# Altium footprint library WCAP-HSAH.PcbLib: 6 footprints
Each footprint in its own frame and in the unit in brackets; x right, y up, seen from the top. Pads: shape width x height; smd on the part's side, far side on the other; paste and mask are expansions set on the pad; w line width, h text height; cw(c..) or ccw(c..) is an arc to the next point about the centre after c.
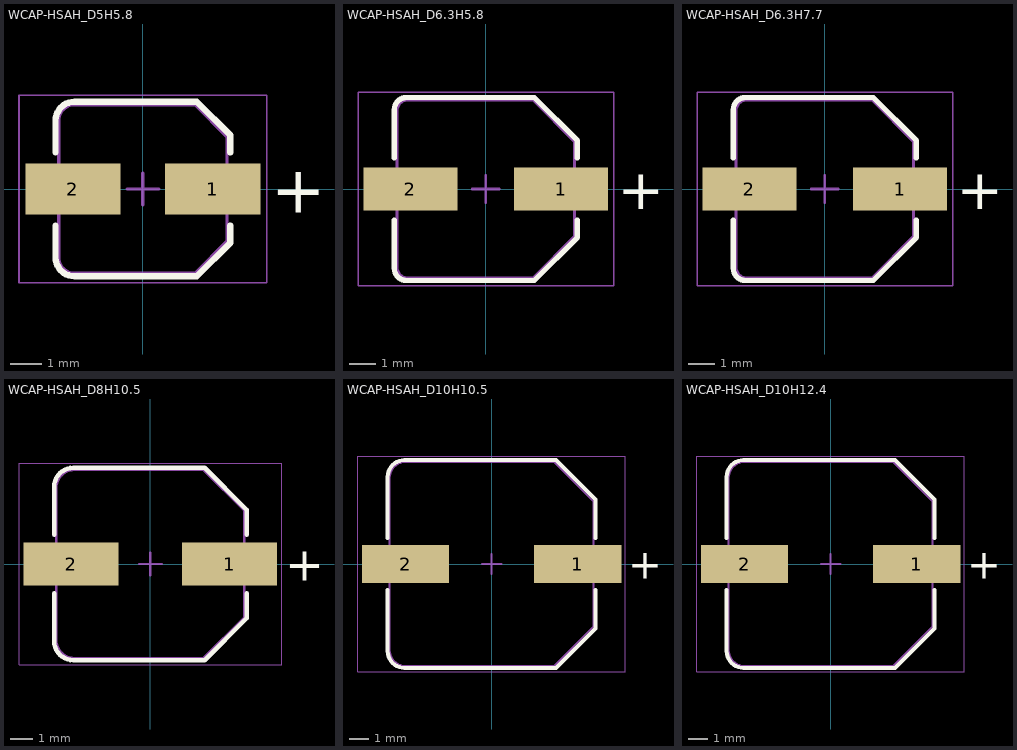
[diagram p0: the footprints below, top view; thin cyan lines are the x and y axes]

## WCAP-HSAH_D5H5.8 [mm] "Aluminum Hybrid Polymer Capacitor, SMT, body diameter 5mm"
height 5.8
pads (2):
  rect 3x1.6 smd: 1(2.2,0) 2(-2.2,0)
Top Overlay:
  lines w0.2: -2.75,-1.15 -2.75,-2.15 ccw(c-2.15,-2.15) -2.15,-2.75 1.7,-2.75 2.75,-1.7 2.75,-1.15 ; -2.75,1.15 -2.75,2.15 cw(c-2.15,2.15) -2.15,2.75 1.7,2.75 2.75,1.7 2.75,1.15
  text "+" at 4.05,-0.75 h1.5
Top Assembly:
  lines w0.1: -2.65,-2.15 ccw(c-2.15,-2.15) -2.15,-2.65 1.65,-2.65 2.65,-1.65 2.65,1.65 1.65,2.65 -2.15,2.65 ccw(c-2.15,2.15) -2.65,2.15 -2.65,-2.15
Top Designator:
  text ".Designator" at -3.647,-0.357 h1
Top Courtyard:
  lines w0.05: -3.9,-2.95 3.9,-2.95 3.9,2.95 -3.9,2.95 -3.9,-2.95
Top Component Center:
  lines w0.1: -0.5,0 0.5,0 ; 0,-0.5 0,0.5
3D body "5x5.8x1.4.stp": height 5.85, standoff 0.05, extent -2.95,-2.65 2.95,2.65

## WCAP-HSAH_D6.3H5.8 [mm] "Aluminum Hybrid Polymer Capacitor, SMT, body diameter 6.3mm"
height 5.8
pads (2):
  rect 3.5x1.6 smd: 1(2.8,0) 2(-2.8,0)
Top Overlay:
  lines w0.2: -3.4,-1.15 -3.4,-2.95 ccw(c-2.95,-2.95) -2.95,-3.4 1.8,-3.4 3.4,-1.8 3.4,-1.15 ; -3.4,1.15 -3.4,2.95 cw(c-2.95,2.95) -2.95,3.4 1.8,3.4 3.4,1.8 3.4,1.15
  text "+" at 4.9,-0.75 h1.5
Top Assembly:
  lines w0.1: -3.3,-2.9 ccw(c-2.9,-2.9) -2.9,-3.3 1.75,-3.3 3.3,-1.75 3.3,1.75 1.75,3.3 -2.9,3.3 ccw(c-2.9,2.9) -3.3,2.9 -3.3,-2.9
Top Designator:
  text ".Designator" at -3.647,-0.357 h1
Top Courtyard:
  lines w0.05: -4.75,-3.6 4.75,-3.6 4.75,3.6 -4.75,3.6 -4.75,-3.6
Top Component Center:
  lines w0.1: -0.5,0 0.5,0 ; 0,-0.5 0,0.5
3D body "6.3x5.8x2.2.stp": height 5.85, standoff 0.05, extent -3.6,-3.3 3.6,3.3

## WCAP-HSAH_D6.3H7.7 [mm] "Aluminum Hybrid Polymer Capacitor, SMT, body diameter 6.3mm"
height 7.7
pads (2):
  rect 3.5x1.6 smd: 1(2.8,0) 2(-2.8,0)
Top Overlay:
  lines w0.2: -3.4,-1.15 -3.4,-2.95 ccw(c-2.95,-2.95) -2.95,-3.4 1.8,-3.4 3.4,-1.8 3.4,-1.15 ; -3.4,1.15 -3.4,2.95 cw(c-2.95,2.95) -2.95,3.4 1.8,3.4 3.4,1.8 3.4,1.15
  text "+" at 4.9,-0.75 h1.5
Top Assembly:
  lines w0.1: -3.3,-2.9 ccw(c-2.9,-2.9) -2.9,-3.3 1.75,-3.3 3.3,-1.75 3.3,1.75 1.75,3.3 -2.9,3.3 ccw(c-2.9,2.9) -3.3,2.9 -3.3,-2.9
Top Designator:
  text ".Designator" at -3.647,-0.357 h1
Top Courtyard:
  lines w0.05: -4.75,-3.6 4.75,-3.6 4.75,3.6 -4.75,3.6 -4.75,-3.6
Top Component Center:
  lines w0.1: -0.5,0 0.5,0 ; 0,-0.5 0,0.5
3D body "6.3x7.7x2.2.stp": height 7.75, standoff 0.05, extent -3.6,-3.3 3.6,3.3

## WCAP-HSAH_D8H10.5 [mm] "Aluminum Hybrid Polymer Capacitor, SMT, body diameter 8mm"
height 10.5
pads (2):
  rect 4.2x1.9 smd: 1(3.5,0) 2(-3.5,0)
Top Overlay:
  lines w0.2: -4.25,-1.3 -4.25,-3.4 ccw(c-3.4,-3.4) -3.4,-4.25 2.4,-4.25 4.25,-2.4 4.25,-1.3 ; -4.25,1.3 -4.25,3.4 cw(c-3.4,3.4) -3.4,4.25 2.4,4.25 4.25,2.4 4.25,1.3
  text "+" at 5.95,-0.75 h1.5
Top Assembly:
  lines w0.1: -4.15,-3.35 ccw(c-3.35,-3.35) -3.35,-4.15 2.35,-4.15 4.15,-2.35 4.15,2.35 2.35,4.15 -3.35,4.15 ccw(c-3.35,3.35) -4.15,3.35 -4.15,-3.35
Top Designator:
  text ".Designator" at -3.647,-0.357 h1
Top Courtyard:
  lines w0.05: -5.8,-4.45 5.8,-4.45 5.8,4.45 -5.8,4.45 -5.8,-4.45
Top Component Center:
  lines w0.1: -0.5,0 0.5,0 ; 0,-0.5 0,0.5
3D body "8x10.5x3.1.stp": height 10.55, standoff 0.05, extent -4.5,-4.15 4.5,4.15

## WCAP-HSAH_D10H10.5 [mm] "Aluminum Hybrid Polymer Capacitor, SMT, body diameter 10mm"
height 10.5
pads (2):
  rect 4.4x1.9 smd: 1(4.35,0) 2(-4.35,0)
Top Overlay:
  lines w0.2: -5.25,-1.3 -5.25,-4.4 ccw(c-4.4,-4.4) -4.4,-5.25 3.25,-5.25 5.25,-3.25 5.25,-1.3 ; -5.25,1.3 -5.25,4.4 cw(c-4.4,4.4) -4.4,5.25 3.25,5.25 5.25,3.25 5.25,1.3
  text "+" at 6.9,-0.75 h1.5
Top Assembly:
  lines w0.1: -5.15,-4.35 ccw(c-4.35,-4.35) -4.35,-5.15 3.15,-5.15 5.15,-3.15 5.15,3.15 3.15,5.15 -4.35,5.15 ccw(c-4.35,4.35) -5.15,4.35 -5.15,-4.35
Top Designator:
  text ".Designator" at -3.647,-0.357 h1
Top Courtyard:
  lines w0.05: -6.75,-5.45 -6.75,5.45 6.75,5.45 6.75,-5.45 -6.75,-5.45
Top Component Center:
  lines w0.1: -0.5,0 0.5,0 ; 0,-0.5 0,0.5
3D body "10x10.5x4.5.stp": height 10.55, standoff 0.05, extent -5.5,-5.15 5.5,5.15

## WCAP-HSAH_D10H12.4 [mm] "Aluminum Hybrid Polymer Capacitor, SMT, body diameter 10mm"
height 12.4
pads (2):
  rect 4.4x1.9 smd: 1(4.35,0) 2(-4.35,0)
Top Overlay:
  lines w0.2: -5.25,-1.3 -5.25,-4.4 ccw(c-4.4,-4.4) -4.4,-5.25 3.25,-5.25 5.25,-3.25 5.25,-1.3 ; -5.25,1.3 -5.25,4.4 cw(c-4.4,4.4) -4.4,5.25 3.25,5.25 5.25,3.25 5.25,1.3
  text "+" at 6.9,-0.75 h1.5
Top Assembly:
  lines w0.1: -5.15,-4.35 ccw(c-4.35,-4.35) -4.35,-5.15 3.15,-5.15 5.15,-3.15 5.15,3.15 3.15,5.15 -4.35,5.15 ccw(c-4.35,4.35) -5.15,4.35 -5.15,-4.35
Top Designator:
  text ".Designator" at -3.647,-0.357 h1
Top Courtyard:
  lines w0.05: -6.75,-5.45 -6.75,5.45 6.75,5.45 6.75,-5.45 -6.75,-5.45
Top Component Center:
  lines w0.1: -0.5,0 0.5,0 ; 0,-0.5 0,0.5
3D body "10x12.4x4.5.stp": height 12.45, standoff 0.05, extent -5.5,-5.15 5.5,5.15